# Altium schematic symbol library Armadeus.SchLib: 18 symbols
Pins are listed as number, name and electrical type; pins without a type are passive.

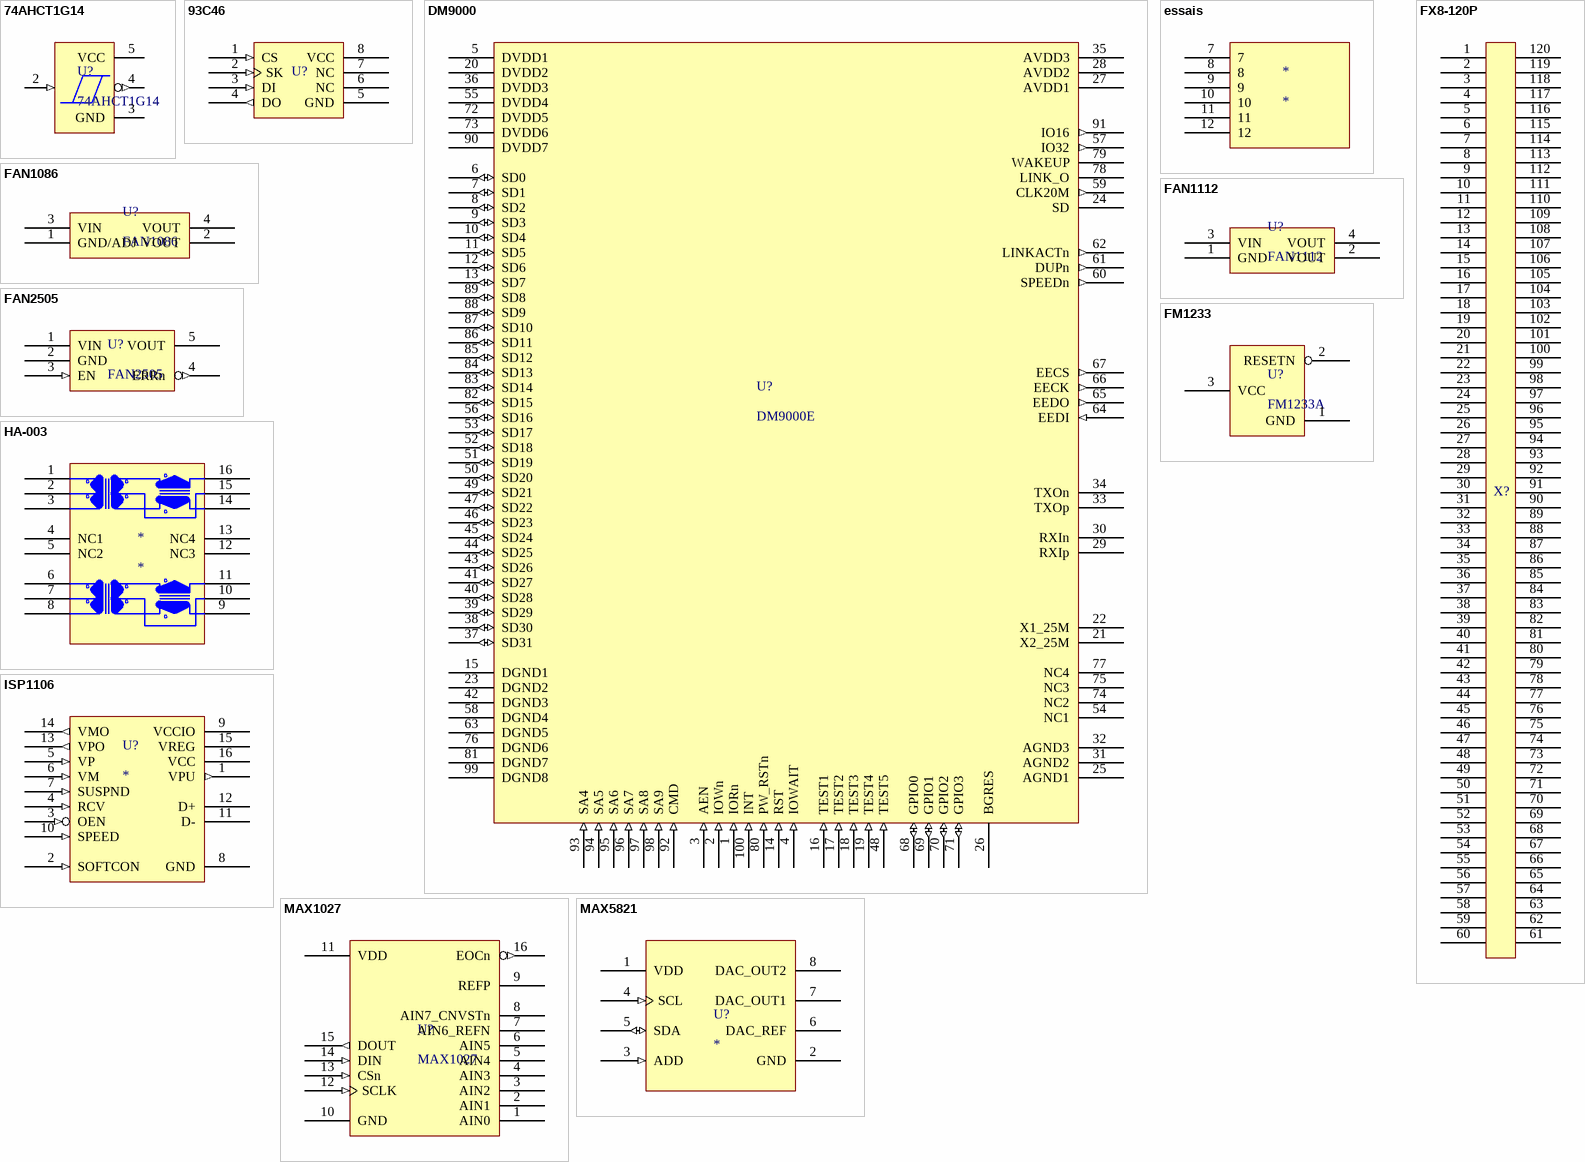
[diagram p0: symbols 74AHCT1G14 to MAX5821]

## 74AHCT1G14
designator U?
pins: 1 NC hidden, 2 (in), 3 GND (power), 4 (out), 5 VCC (power)

## 93C46
designator U?
pins: 1 CS (in), 2 SK (in), 3 DI (in), 4 DO (out), 5 GND (power), 6 NC, 7 NC, 8 VCC (power)

## DM9000
designator U?, comment DM9000E
pins: 1 IORn (in), 2 IOWn (in), 3 AEN (in), 4 IOWAIT (in), 5 DVDD1 (power), 6 SD0 (io) "Data", 7 SD1 (io) "Data", 8 SD2 (io) "Data", 9 SD3 (io) "Data", 10 SD4 (io) "Data", 11 SD5 (io) "Data", 12 SD6 (io) "Data", 13 SD7 (io) "Data", 14 RST (in), 15 DGND1 (power), 16 TEST1 (in), 17 TEST2 (in), 18 TEST3 (in), 19 TEST4 (in), 20 DVDD2 (power), 21 X2_25M, 22 X1_25M, 23 DGND2 (power), 24 SD, 25 AGND1 (power), 26 BGRES, 27 AVDD1 (power), 28 AVDD2 (power), 29 RXIp, 30 RXIn, 31 AGND2 (power), 32 AGND3 (power), 33 TXOp, 34 TXOn, 35 AVDD3 (power), 36 DVDD3 (power), 37 SD31 (io) "Data", 38 SD30 (io) "Data", 39 SD29 (io) "Data", 40 SD28 (io) "Data", 41 SD27 (io) "Data", 42 DGND3 (power), 43 SD26 (io) "Data", 44 SD25 (io) "Data", 45 SD24 (io) "Data", 46 SD23 (io) "Data", 47 SD22 (io) "Data", 48 TEST5 (in), 49 SD21 (io) "Data", 50 SD20 (io) "Data", 51 SD19 (io) "Data", 52 SD18 (io) "Data", 53 SD17 (io) "Data", 54 NC1, 55 DVDD4 (power), 56 SD16 (io) "Data", 57 IO32 (out), 58 DGND4 (power), 59 CLK20M (out), 60 SPEEDn (out), 61 DUPn (out), 62 LINKACTn (out), 63 DGND5 (power), 64 EEDI (in), 65 EEDO (out), 66 EECK (out), 67 EECS (out), 68 GPIO0 (io), 69 GPIO1 (io), 70 GPIO2 (io), 71 GPIO3 (io), 72 DVDD5 (power), 73 DVDD6 (power), 74 NC2, 75 NC3, 76 DGND6 (power), 77 NC4, 78 LINK_O, 79 WAKEUP, 80 PW_RSTn (in), 81 DGND7 (power), 82 SD15 (io) "Data", 83 SD14 (io) "Data", 84 SD13 (io) "Data", 85 SD12 (io) "Data", 86 SD11 (io) "Data", 87 SD10 (io) "Data", 88 SD9 (io) "Data", 89 SD8 (io) "Data", 90 DVDD7 (power), 91 IO16 (out), 92 CMD (in), 93 SA4 (in), 94 SA5 (in), 95 SA6 (in), 96 SA7 (in), 97 SA8 (in), 98 SA9 (in), 99 DGND8 (power), 100 INT (in)

## essais
designator *
pins: 7, 8, 9, 10, 11, 12

## FAN1086
designator U?
pins: 1 GND/ADJ (power), 2 VOUT (power), 3 VIN (power), 4 VOUT (power)

## FAN1112
designator U?
pins: 1 GND (power), 2 VOUT (power), 3 VIN (power), 4 VOUT (power)

## FAN2505
designator U?
pins: 1 VIN (power), 2 GND (power), 3 EN (in), 4 ERRn (out), 5 VOUT (power)

## FM1233
designator U?, comment FM1233A
pins: 1 GND (power), 2 RESETN (oc), 3 VCC (power)

## FX8-120P
designator X?  (value not drawn)
pins: 1, 2, 3, 4, 5, 6, 7, 8, 9, 10, 11, 12, 13, 14, 15, 16, 17, 18, 19, 20, 21, 22, 23, 24, 25, 26, 27, 28, 29, 30, 31, 32, 33, 34, 35, 36, 37, 38, 39, 40, 41, 42, 43, 44, 45, 46, 47, 48, 49, 50, 51, 52, 53, 54, 55, 56, 57, 58, 59, 60, 61, 62, 63, 64, 65, 66, 67, 68, 69, 70, 71, 72, 73, 74, 75, 76, 77, 78, 79, 80, 81, 82, 83, 84, 85, 86, 87, 88, 89, 90, 91, 92, 93, 94, 95, 96, 97, 98, 99, 100, 101, 102, 103, 104, 105, 106, 107, 108, 109, 110, 111, 112, 113, 114, 115, 116, 117, 118, 119, 120

## HA-003
designator *
pins: 1, 2, 3, 4 NC1, 5 NC2, 6, 7, 8, 9, 10, 11, 12 NC3, 13 NC4, 14, 15, 16

## ISP1106
designator U?
pins: 1 VPU (out), 2 SOFTCON (in), 3 OEN (in), 4 RCV (in), 5 VP (in), 6 VM (in), 7 SUSPND (in), 8 GND (power), 9 VCCIO (power), 10 SPEED (in), 11 D-, 12 D+, 13 VPO (out), 14 VMO (out), 15 VREG (power), 16 VCC (power)

## MAX1027
designator U?
pins: 1 AIN0, 2 AIN1, 3 AIN2, 4 AIN3, 5 AIN4, 6 AIN5, 7 AIN6_REFN, 8 AIN7_CNVSTn, 9 REFP, 10 GND (power), 11 VDD (power), 12 SCLK (in), 13 CSn (in), 14 DIN (in), 15 DOUT (out), 16 EOCn (out)

## MAX5821
designator U?
pins: 1 VDD (power), 2 GND (power), 3 ADD (in), 4 SCL (in), 5 SDA (io), 6 DAC_REF, 7 DAC_OUT1, 8 DAC_OUT2

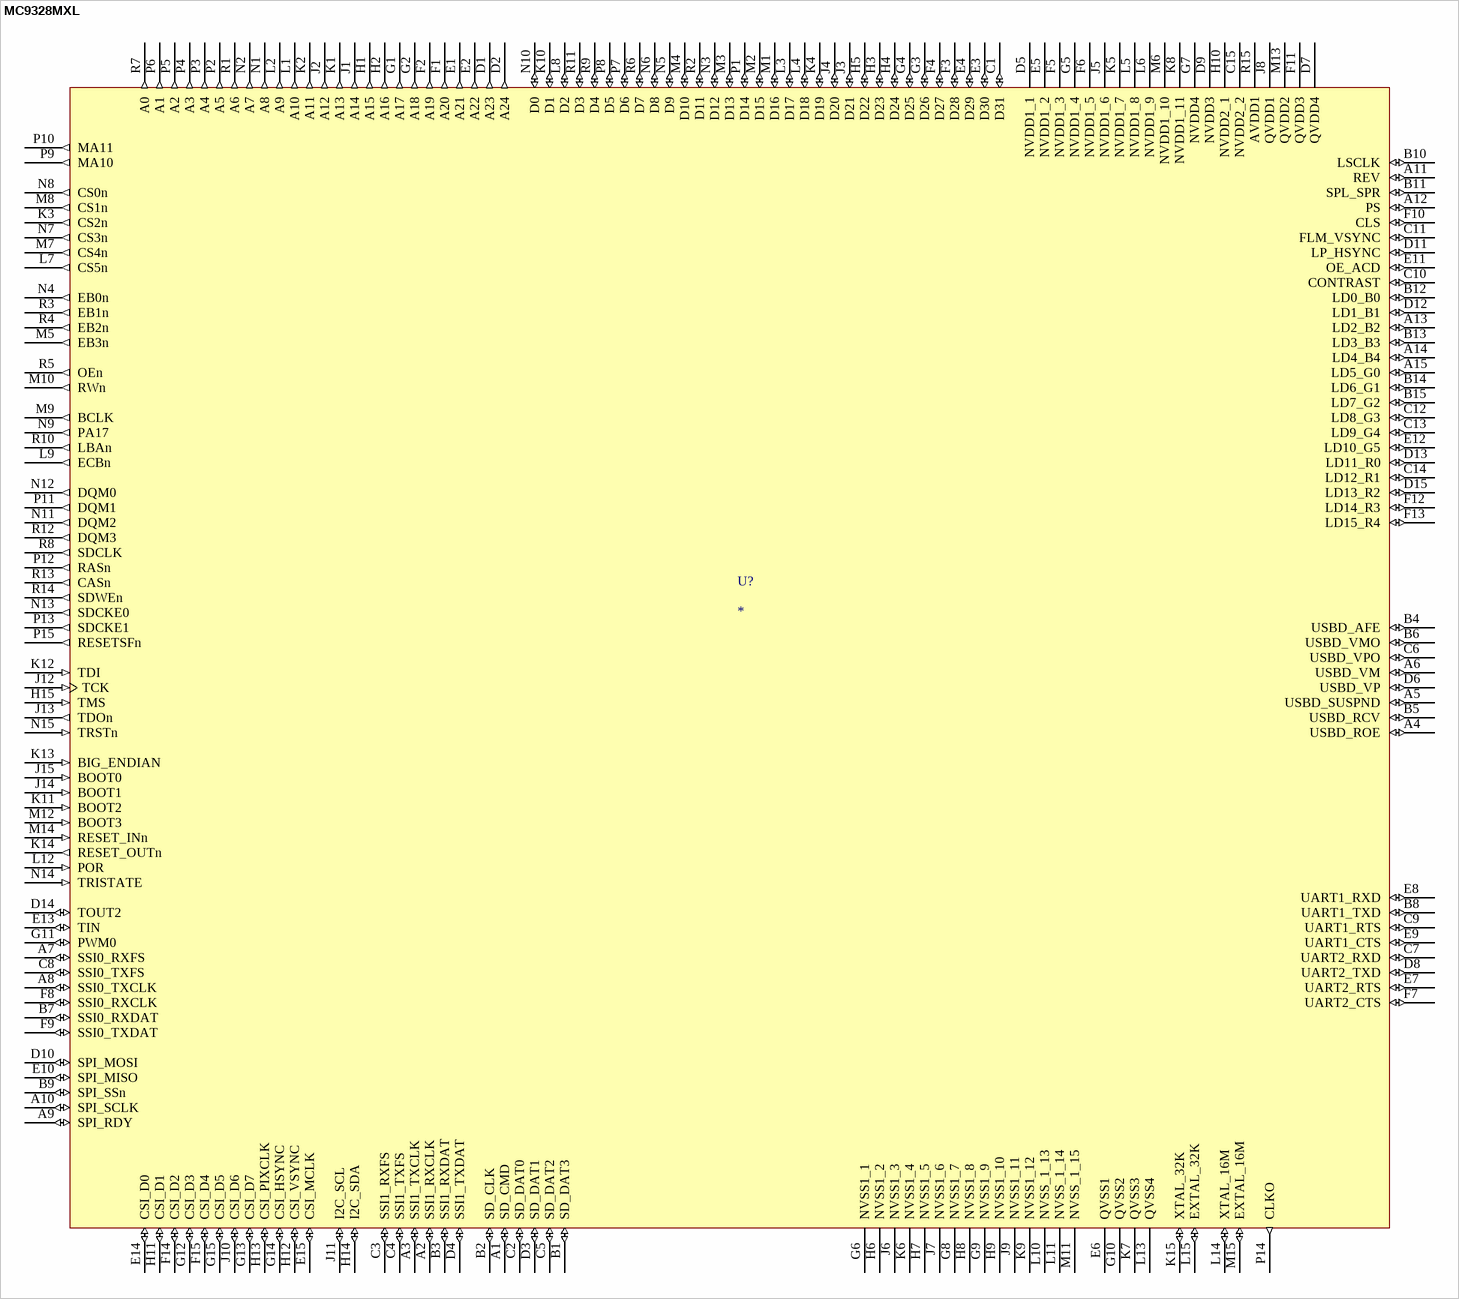
[diagram p1: symbol MC9328MXL]

## MC9328MXL
designator U?
pins: A1 SD_CMD (io), A2 SSI1_RXCLK (io), A3 SSI1_TXCLK (io), A4 USBD_ROE (io), A5 USBD_SUSPND (io), A6 USBD_VM (io), A7 SSI0_RXFS (io), A8 SSI0_TXCLK (io), A9 SPI_RDY (io), A10 SPI_SCLK (io), A11 REV (io), A12 PS (io), A13 LD2_B2 (io), A14 LD4_B4 (io), A15 LD5_G0 (io), B1 SD_DAT3 (io), B2 SD_CLK (io), B3 SSI1_RXDAT (io), B4 USBD_AFE (io), B5 USBD_RCV (io), B6 USBD_VMO (io), B7 SSI0_RXDAT (io), B8 UART1_TXD (io), B9 SPI_SSn (io), B10 LSCLK (io), B11 SPL_SPR (io), B12 LD0_B0 (io), B13 LD3_B3 (io), B14 LD6_G1 (io), B15 LD7_G2 (io), C1 D31 (io), C2 SD_DAT0 (io), C3 SSI1_RXFS (io), C4 SSI1_TXFS (io), C5 SD_DAT2 (io), C6 USBD_VPO (io), C7 UART2_RXD (io), C8 SSI0_TXFS (io), C9 UART1_RTS (io), C10 CONTRAST (io), C11 FLM_VSYNC (io), C12 LD8_G3 (io), C13 LD9_G4 (io), C14 LD12_R1 (io), C15 NVDD2_2 (power), D1 A23 (out), D2 A24 (out), D3 SD_DAT1 (io), D4 SSI1_TXDAT (io), D5 NVDD1_1 (power), D6 USBD_VP (io), D7 QVDD4 (power), D8 UART2_TXD (io), D9 NVDD3 (power), D10 SPI_MOSI (io), D11 LP_HSYNC (io), D12 LD1_B1 (io), D13 LD11_R0 (io), D14 TOUT2 (io), D15 LD13_R2 (io), E1 A21 (out), E2 A22 (out), E3 D30 (io), E4 D29 (io), E5 NVDD1_2 (power), E6 QVSS1 (power), E7 UART2_RTS (io), E8 UART1_RXD (io), E9 UART1_CTS (io), E10 SPI_MISO (io), E11 OE_ACD (io), E12 LD10_G5 (io), E13 TIN (io), E14 CSI_D0 (io), E15 CSI_MCLK (io), F1 A20 (out), F2 A19 (out), F3 D28 (io), F4 D27 (io), F5 NVDD1_3 (power), F6 NVDD1_5 (power), F7 UART2_CTS (io), F8 SSI0_RXCLK (io), F9 SSI0_TXDAT (io), F10 CLS (io), F11 QVDD3 (power), F12 LD14_R3 (io), F13 LD15_R4 (io), F14 CSI_D2 (io), F15 CSI_D4 (io), G1 A17 (out), G2 A18 (out), G3 D26 (io), G4 D25 (io), G5 NVDD1_4 (power), G6 NVSS1_1 (power), G7 NVDD4 (power), G8 NVSS1_7 (power), G9 NVSS1_9 (power), G10 QVSS2 (power), G11 PWM0 (io), G12 CSI_D3 (io), G13 CSI_D7 (io), G14 CSI_HSYNC (io), G15 CSI_D5 (io), H1 A15 (out), H2 A16 (out), H3 D23 (io), H4 D24 (io), H5 D22 (io), H6 NVSS1_2 (power), H7 NVSS1_5 (power), H8 NVSS1_8 (power), H9 NVSS1_10 (power), H10 NVDD2_1 (power), H11 CSI_D1 (io), H12 CSI_VSYNC (io), H13 CSI_PIXCLK (io), H14 I2C_SDA (io), H15 TMS (in), J1 A14 (out), J2 A12 (out), J3 D21 (io), J4 D20 (io), J5 NVDD1_6 (power), J6 NVSS1_3 (power), J7 NVSS1_6 (power), J8 QVDD1 (power), J9 NVSS1_11 (power), J10 CSI_D6 (io), J11 I2C_SCL (io), J12 TCK (in), J13 TDOn (out), J14 BOOT1 (in), J15 BOOT0 (in), K1 A13 (out), K2 A11 (out), K3 CS2n (out), K4 D19 (io), K5 NVDD1_7 (power), K6 NVSS1_4 (power), K7 QVSS3 (power), K8 NVDD1_11 (power), K9 NVSS1_12 (power), K10 D1 (io), K11 BOOT2 (in), K12 TDI (in), K13 BIG_ENDIAN (in), K14 RESET_OUTn (out), K15 XTAL_32K (io), L1 A10 (out), L2 A9 (out), L3 D17 (io), L4 D18 (io), L5 NVDD1_8 (power), L6 NVDD1_9 (power), L7 CS5n (out), L8 D2 (io), L9 ECBn (out), L10 NVSS_1_13 (power), L11 NVSS_1_14 (power), L12 POR (in), L13 QVSS4 (power), L14 XTAL_16M (io), L15 EXTAL_32K (io), M1 D16 (io), M2 D15 (io), M3 D13 (io), M4 D10 (io), M5 EB3n (out), M6 NVDD1_10 (power), M7 CS4n (out), M8 CS1n (out), M9 BCLK (out), M10 RWn (out), M11 NVSS_1_15 (power), M12 BOOT3 (in), M13 QVDD2 (power), M14 RESET_INn (in), M15 EXTAL_16M (io), N1 A8 (out), N2 A7 (out), N3 D12 (io), N4 EB0n (out), N5 D9 (io), N6 D8 (io), N7 CS3n (out), N8 CS0n (out), N9 PA17 (out), N10 D0 (io), N11 DQM2 (out), N12 DQM0 (out), N13 SDCKE0 (out), N14 TRISTATE (in), N15 TRSTn (in), P1 D14 (io), P2 A5 (out), P3 A4 (out), P4 A3 (out), P5 A2 (out), P6 A1 (out), P7 D6 (io), P8 D5 (io), P9 MA10 (out), P10 MA11 (out), P11 DQM1 (out), P12 RASn (out), P13 SDCKE1 (out), P14 CLKO (out), P15 RESETSFn (out), R1 A6 (out), R2 D11 (io), R3 EB1n (out), R4 EB2n (out), R5 OEn (out), R6 D7 (io), R7 A0 (out), R8 SDCLK (out), R9 D4 (io), R10 LBAn (out), R11 D3 (io), R12 DQM3 (out), R13 CASn (out), R14 SDWEn (out), R15 AVDD1 (power)

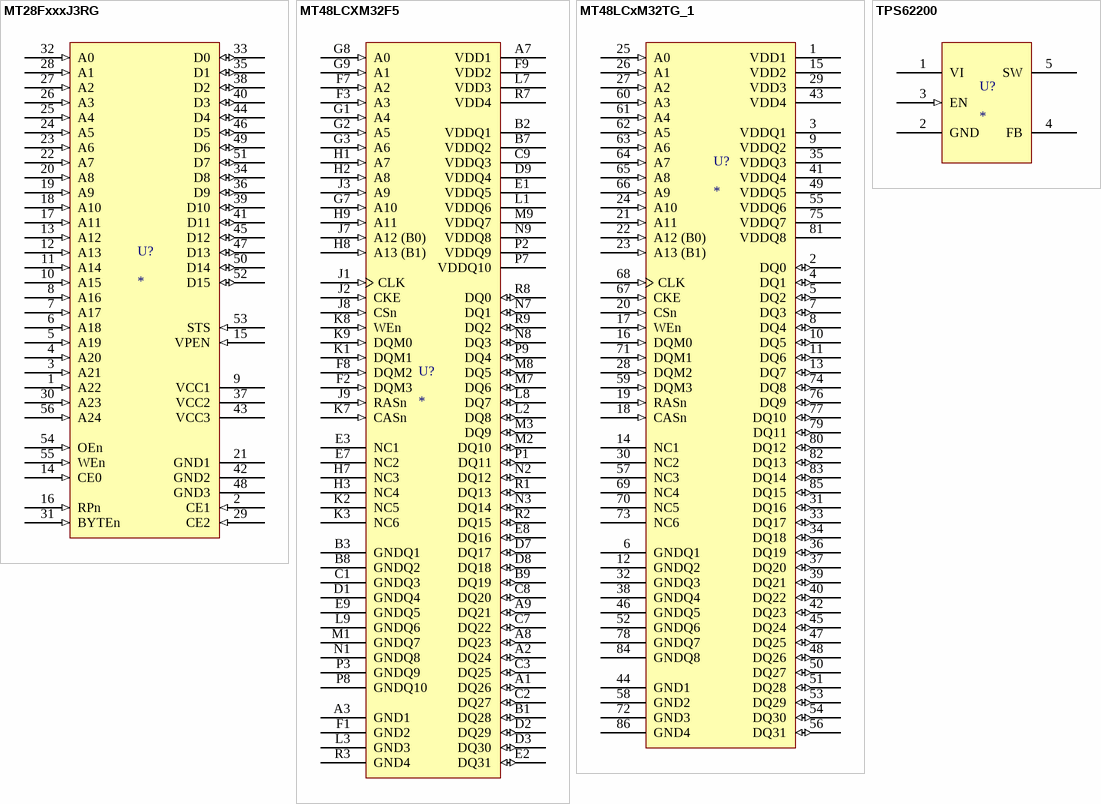
[diagram p2: symbols MT28FxxxJ3RG to TPS62200]

## MT28FxxxJ3RG
designator U?
pins: 1 A22 (in), 2 CE1 (in), 3 A21 (in), 4 A20 (in), 5 A19 (in), 6 A18 (in), 7 A17 (in), 8 A16 (in), 9 VCC1 (power), 10 A15 (in), 11 A14 (in), 12 A13 (in), 13 A12 (in), 14 CE0 (in), 15 VPEN (in), 16 RPn (in), 17 A11 (in), 18 A10 (in), 19 A9 (in), 20 A8 (in), 21 GND1 (power), 22 A7 (in), 23 A6 (in), 24 A5 (in), 25 A4 (in), 26 A3 (in), 27 A2 (in), 28 A1 (in), 29 CE2 (in), 30 A23 (in), 31 BYTEn (in), 32 A0 (in), 33 D0 (io), 34 D8 (io), 35 D1 (io), 36 D9 (io), 37 VCC2 (power), 38 D2 (io), 39 D10 (io), 40 D3 (io), 41 D11 (io), 42 GND2 (power), 43 VCC3 (power), 44 D4 (io), 45 D12 (io), 46 D5 (io), 47 D13 (io), 48 GND3 (power), 49 D6 (io), 50 D14 (io), 51 D7 (io), 52 D15 (io), 53 STS (in), 54 OEn (in), 55 WEn (in), 56 A24 (in)

## MT48LCXM32F5
designator U?
pins: A1 DQ26 (io), A2 DQ24 (io), A3 GND1 (power), A7 VDD1 (power), A8 DQ23 (io), A9 DQ21 (io), B1 DQ28 (io), B2 VDDQ1 (power), B3 GNDQ1 (power), B7 VDDQ2 (power), B8 GNDQ2 (power), B9 DQ19 (io), C1 GNDQ3 (power), C2 DQ27 (io), C3 DQ25 (io), C7 DQ22 (io), C8 DQ20 (io), C9 VDDQ3 (power), D1 GNDQ4 (power), D2 DQ29 (io), D3 DQ30 (io), D7 DQ17 (io), D8 DQ18 (io), D9 VDDQ4 (power), E1 VDDQ5 (power), E2 DQ31 (io), E3 NC1, E7 NC2, E8 DQ16 (io), E9 GNDQ5 (power), F1 GND2 (power), F2 DQM3 (in), F3 A3 (in), F7 A2 (in), F8 DQM2 (in), F9 VDD2 (power), G1 A4 (in), G2 A5 (in), G3 A6 (in), G7 A10 (in), G8 A0 (in), G9 A1 (in), H1 A7 (in), H2 A8 (in), H3 NC4, H7 NC3, H8 A13 (B1) (in), H9 A11 (in), J1 CLK (in), J2 CKE (in), J3 A9 (in), J7 A12 (B0) (in), J8 CSn (in), J9 RASn (in), K1 DQM1 (in), K2 NC5, K3 NC6, K7 CASn (in), K8 WEn (in), K9 DQM0 (in), L1 VDDQ6 (power), L2 DQ8 (io), L3 GND3 (power), L7 VDD3 (power), L8 DQ7 (io), L9 GNDQ6 (power), M1 GNDQ7 (power), M2 DQ10 (io), M3 DQ9 (io), M7 DQ6 (io), M8 DQ5 (io), M9 VDDQ7 (power), N1 GNDQ8 (power), N2 DQ12 (io), N3 DQ14 (io), N7 DQ1 (io), N8 DQ3 (io), N9 VDDQ8 (power), P1 DQ11 (io), P2 VDDQ9 (power), P3 GNDQ9 (power), P7 VDDQ10 (power), P8 GNDQ10 (power), P9 DQ4 (io), R1 DQ13 (io), R2 DQ15 (io), R3 GND4 (power), R7 VDD4 (power), R8 DQ0 (io), R9 DQ2 (io)

## MT48LCxM32TG_1
designator U?
pins: 1 VDD1 (power), 2 DQ0 (io), 3 VDDQ1 (power), 4 DQ1 (io), 5 DQ2 (io), 6 GNDQ1 (power), 7 DQ3 (io), 8 DQ4 (io), 9 VDDQ2 (power), 10 DQ5 (io), 11 DQ6 (io), 12 GNDQ2 (power), 13 DQ7 (io), 14 NC1, 15 VDD2 (power), 16 DQM0 (in), 17 WEn (in), 18 CASn (in), 19 RASn (in), 20 CSn (in), 21 A11 (in), 22 A12 (B0) (in), 23 A13 (B1) (in), 24 A10 (in), 25 A0 (in), 26 A1 (in), 27 A2 (in), 28 DQM2 (in), 29 VDD3 (power), 30 NC2, 31 DQ16 (io), 32 GNDQ3 (power), 33 DQ17 (io), 34 DQ18 (io), 35 VDDQ3 (power), 36 DQ19 (io), 37 DQ20 (io), 38 GNDQ4 (power), 39 DQ21 (io), 40 DQ22 (io), 41 VDDQ4 (power), 42 DQ23 (io), 43 VDD4 (power), 44 GND1 (power), 45 DQ24 (io), 46 GNDQ5 (power), 47 DQ25 (io), 48 DQ26 (io), 49 VDDQ5 (power), 50 DQ27 (io), 51 DQ28 (io), 52 GNDQ6 (power), 53 DQ29 (io), 54 DQ30 (io), 55 VDDQ6 (power), 56 DQ31 (io), 57 NC3, 58 GND2 (power), 59 DQM3 (in), 60 A3 (in), 61 A4 (in), 62 A5 (in), 63 A6 (in), 64 A7 (in), 65 A8 (in), 66 A9 (in), 67 CKE (in), 68 CLK (in), 69 NC4, 70 NC5, 71 DQM1 (in), 72 GND3 (power), 73 NC6, 74 DQ8 (io), 75 VDDQ7 (power), 76 DQ9 (io), 77 DQ10 (io), 78 GNDQ7 (power), 79 DQ11 (io), 80 DQ12 (io), 81 VDDQ8 (power), 82 DQ13 (io), 83 DQ14 (io), 84 GNDQ8 (power), 85 DQ15 (io), 86 GND4 (power)

## TPS62200
designator U?
pins: 1 VI (power), 2 GND (power), 3 EN (in), 4 FB, 5 SW (power)